# EAGLE library part PA83 (library opamps)
PA83: High voltage power opamp (Apex) ±15V, ±75mA, 50pA bias 3mV offset, 3MHz UGF, 4nV/rt(Hz) noise
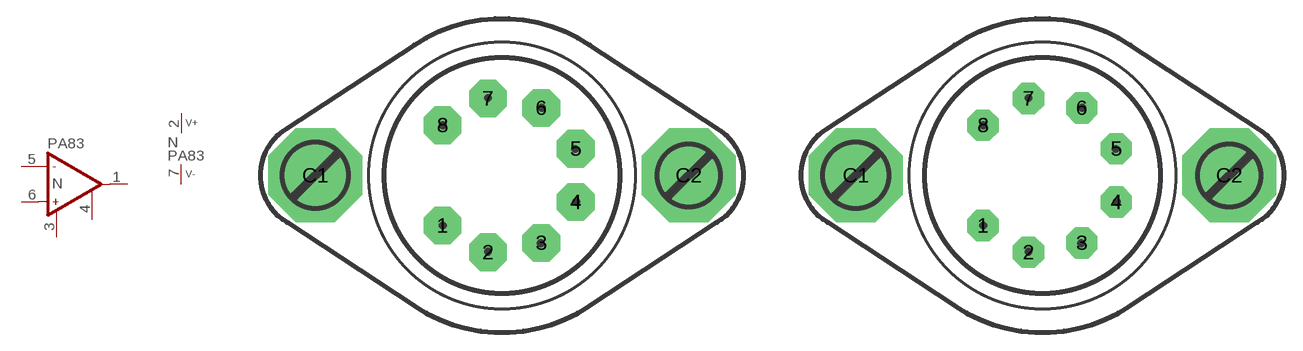
[diagram p196: symbol with the pads of TO3-8; footprints TO3-8, TO3-8R]

Designator prefix N; gates A=OP_C P=V+-

## PA83  [TO3-8]
1  A:OUT  out
2  P:V+  pwr
3  A:OPC1
4  A:OPC2
5  A:IN-  in
6  A:IN+  in
7  P:V-  pwr

## PA83T  [TO3-8]
Pads as for TO3-8

## PA83R  [TO3-8R]
Pads as for TO3-8

## PA83TR  [TO3-8R]
Pads as for TO3-8

## Footprint TO3-8 (pad centres in mm)
TO-3 Power package, 8 pins
drill 1.194 pad 3.048 octagon: 1 -4.826,-4.064; 2 -1.143,-6.223; 3 3.175,-5.461; 4 5.969,-2.159; 5 5.969,2.159; 6 3.175,5.461; 7 -1.143,6.223; 8 -4.826,4.064
drill 3.2 pad 7.62 octagon: C1 -15.113,0; C2 15.113,0

## Footprint TO3-8R (pad centres in mm)
TO-3, reduced pads Power package, 8 pins
drill 1.194 pad 2.54 octagon: 1 -4.826,-4.064; 2 -1.143,-6.223; 3 3.175,-5.461; 4 5.969,-2.159; 5 5.969,2.159; 6 3.175,5.461; 7 -1.143,6.223; 8 -4.826,4.064
drill 3.2 pad 7.62 octagon: C1 -15.113,0; C2 15.113,0